# Altium footprint library SSR.PcbLib: 24 footprints (part 2 of 2)
Each footprint in its own frame and in the unit in brackets; x right, y up, seen from the top. Pads: shape width x height; smd on the part's side, far side on the other; paste and mask are expansions set on the pad; w line width, h text height; cw(c..) or ccw(c..) is an arc to the next point about the centre after c.
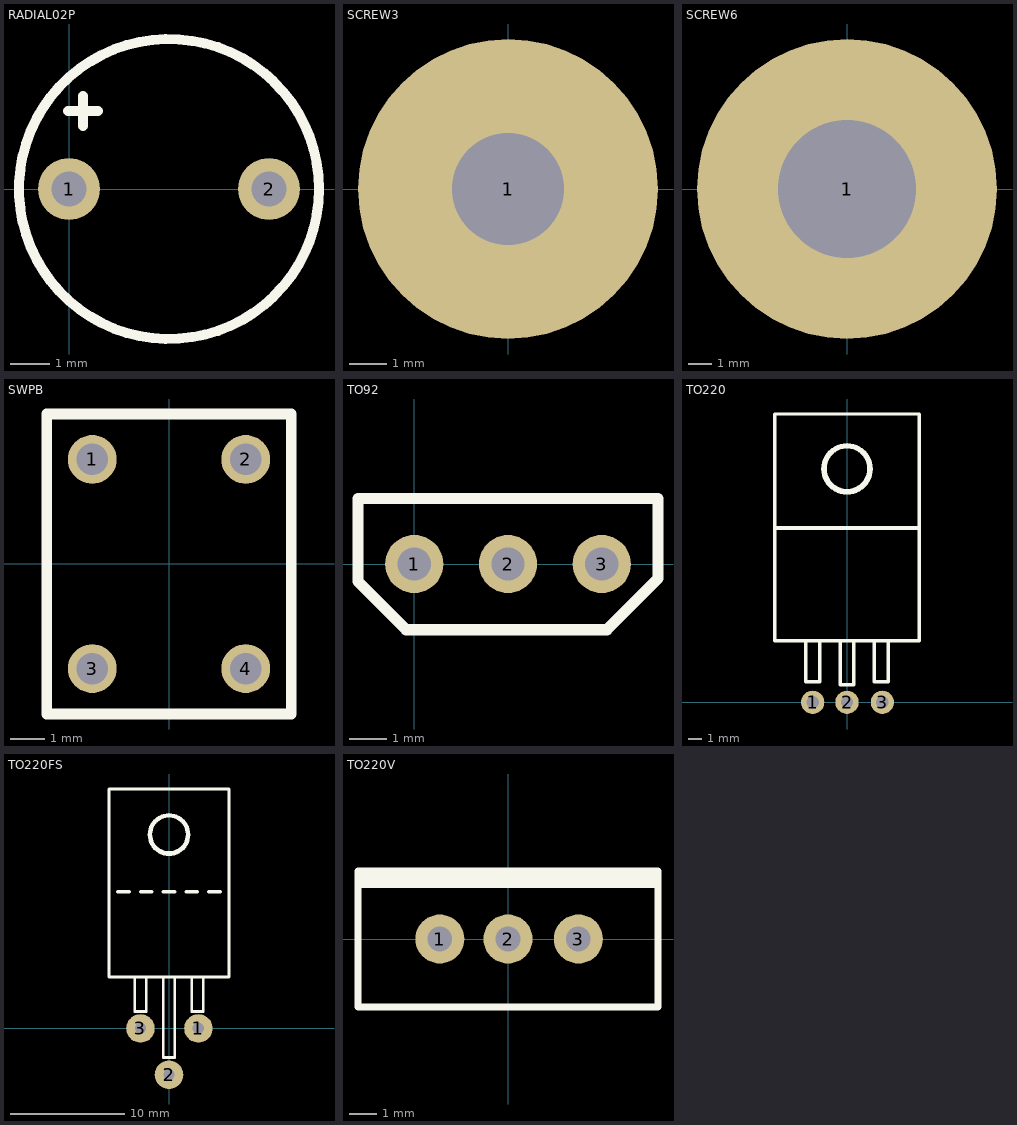
[diagram p1: the footprints below, top view; thin cyan lines are the x and y axes]

## RADIAL02P [mil]
pads (2):
  round 62 hole 35.43: 1(0,0) 2(200,0)
Top Overlay:
  circle w10: c100,0 r150
  lines w10: -1.06,77.8 28.94,77.8 ; 13.94,62.8 13.94,92.8

## SCREW3 [mm]
pads (1):
  round 8 hole 3: 1(0,0)

## SCREW6 [mm]
pads (1):
  round 13 hole 6: 1(0,0)

## SWPB [mm]
pads (4):
  round 1.4 hole 0.9: 1(-2.2,3) 2(2.2,3) 3(-2.2,-3) 4(2.2,-3)
Top Overlay:
  lines w0.306: -3.5,-4.3 -3.5,4.3 3.5,4.3 3.5,-4.3 -3.5,-4.3

## TO92 [mil]
pads (3):
  round 62 hole 35.43: 1(0,0) 2(100,0) 3(200,0)
Top Overlay:
  lines w12: -60,-18.74 -60,70 260,70 260,-15.59 205.59,-70 -8.74,-70 -60,-18.74

## TO220 [mm] "TO220"
height 25
pads (3):
  round 1.7 hole 0.9: 1(-2.5,0) 2(0,0) 3(2.58,0)
Top Overlay:
  circle w0.254: c0,17.018 r1.598
  circle w0.254: c0,17 r1.75
  lines w0.254: -3,4.5 -3,1.5 -2,1.5 -2,4.5 ; -0.5,4.5 -0.5,1.27 0.5,1.27 0.5,4.5 ; 2,4.5 2,1.5 3,1.5 3,4.5 ; -5.25,4.5 5.25,4.5 5.25,21 -5.25,21 -5.25,4.5
  lines w0.3: -5.08,12.7 5.08,12.7

## TO220FS [mm] "TO220 Flat Reverse"
height 25
pads (3):
  round 2.5 hole 1: 1(2.58,0) 2(0,-4.064) 3(-2.5,0)
Top Overlay:
  circle w0.254: c0,17.018 r1.598
  circle w0.254: c0,17 r1.75
  lines w0.254: -3,4.5 -3,1.5 -2,1.5 -2,4.5 ; -0.508,-2.54 0.492,-2.54 ; -0.5,-2.54 -0.5,4.5 ; 0.5,-2.54 0.5,4.5 ; 2,4.5 2,1.5 3,1.5 3,4.5 ; -5.25,4.5 5.25,4.5 5.25,21 -5.25,21 -5.25,4.5
  lines w0.3: -4.5,12 -3.5,12 ; -2.5,12 -1.5,12 ; -0.5,12 0.5,12 ; 1.5,12 2.5,12 ; 3.5,12 4.5,12

## TO220V [mm] "TO220"
height 25
pads (3):
  round 1.8 hole 0.9: 1(-2.5,0) 2(0,0) 3(2.58,0)
Top Overlay:
  lines w0.254: -5.5,2 5.5,2 ; -5.5,2.2 5.5,2.2 ; -5.5,2.3 5.5,2.3 ; -5.5,-2.5 5.5,-2.5 5.5,2.5 -5.5,2.5 -5.5,-2.5